# Altium integrated library NSC ADC.IntLib: 493 symbols (part 1 of 17)
Pins are listed as number, name and electrical type; pins without a type are passive.

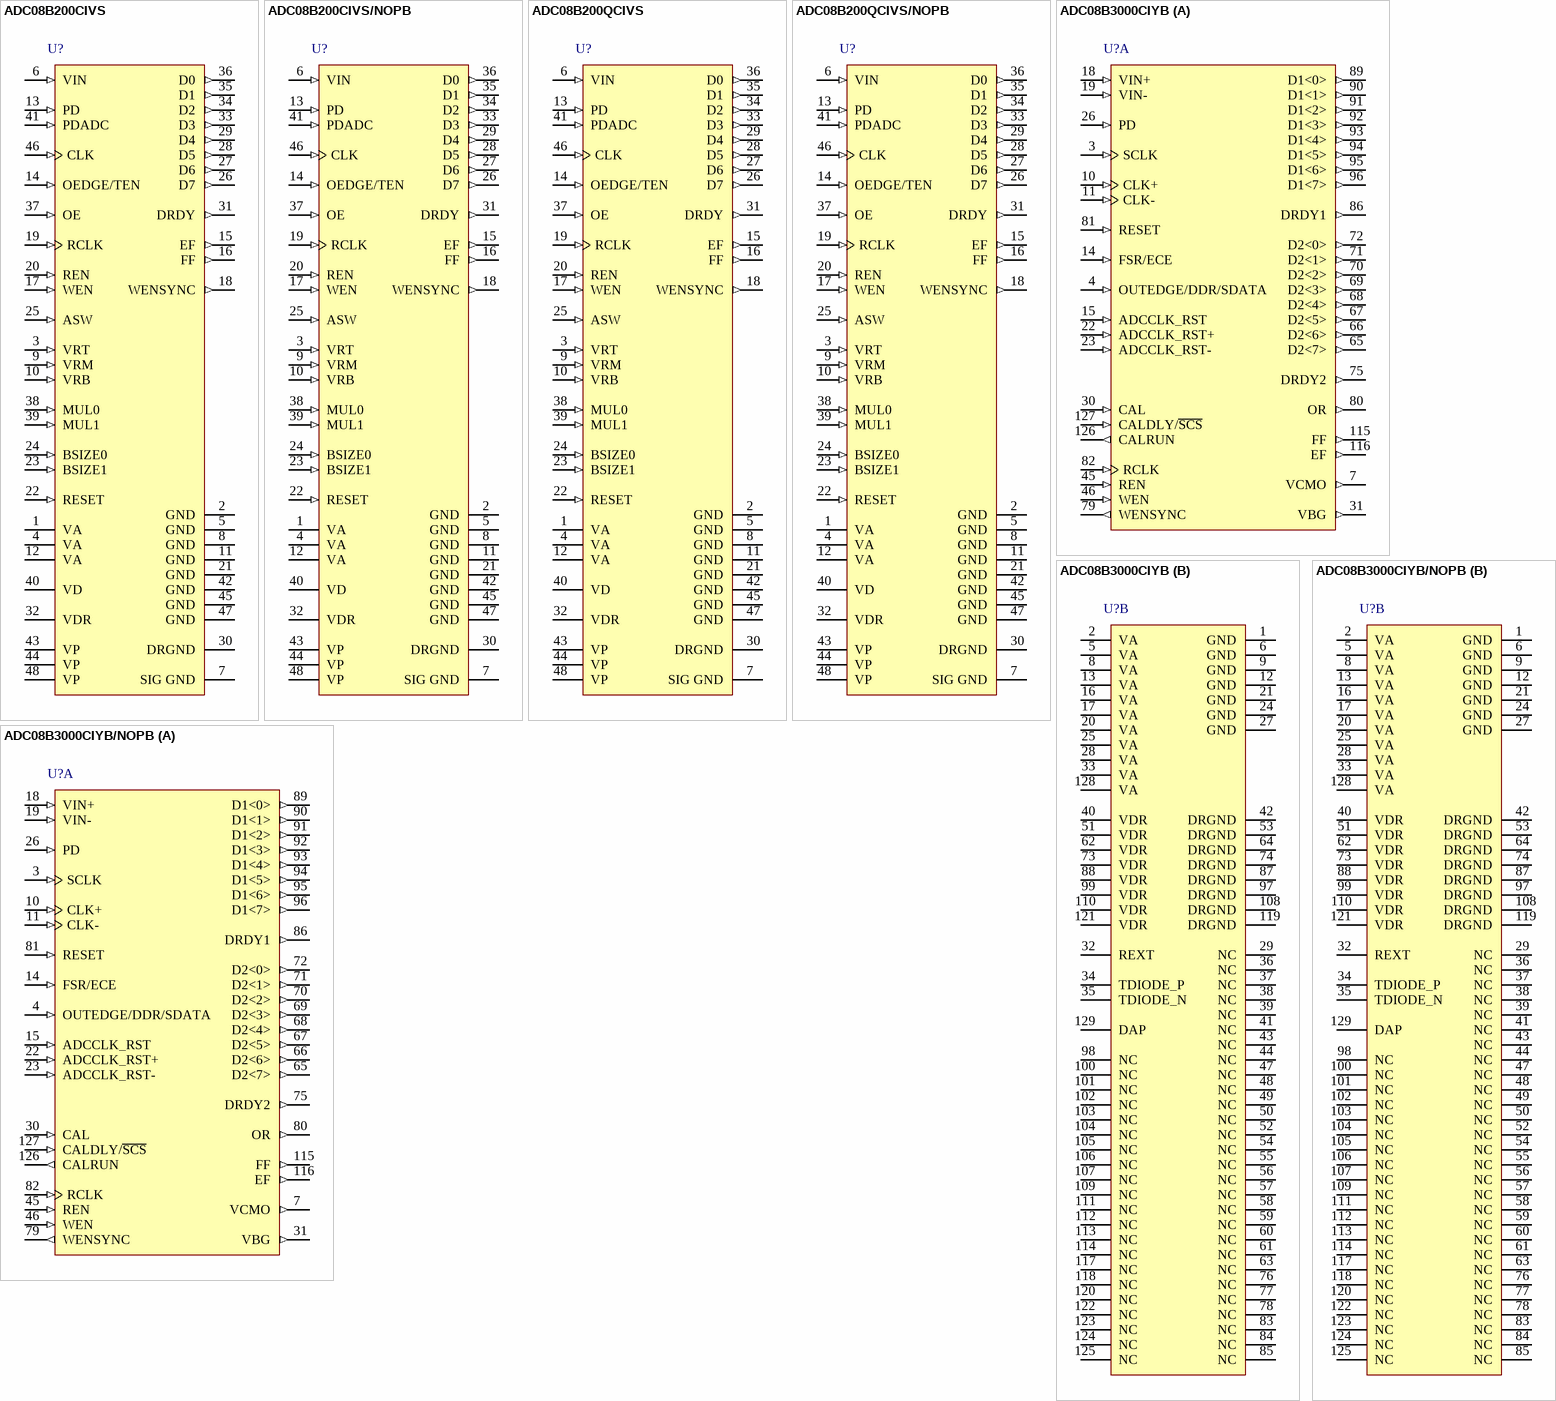
[diagram p0: symbols ADC08B200CIVS to ADC08B3000CIYB/NOPB]

## ADC08B200CIVS
designator U?
8-Bit, 200 MSPS A/D Converter with Capture Buffer, 48-pin TQFP; PartNumber: ADC08B200CIVS; Manufacturer: National Semiconductor; PackageTopMarking: NSUZXYTT*DC08B200*CIVS; PowerWise: N; CompType: ADC IC; Published: 4-Dec-2008; DatasheetVersion: Jul-2009; PackageVersion: revA, Apr-2000; PackageReference: VBC48A; Publisher: Altium Limited; PackageDescription: TQFP, Jedec Metric, 7 x 7 x 1mm, 48 Lead, 0.5mm Pitch; Supplier 1: Farnell; Supplier Part Number 1: 1370034; RoHS: Y; PinCount: 48; Code_JEDEC: MS-026-ABC; ComponentLink1Description: ADC08B200 Datasheet; ComponentLink1URL: http://www.national.com/ds/AD/ADC08B200.pdf; ComponentLink2Description: ADC08B200 Web Page; ComponentLink2URL: http://www.national.com/pf/AD/ADC08B200.html; ComponentLink3Description: VBC48A Package Page; ComponentLink3URL: http://www.national.com/packaging/folders/vbc48a.html
footprint VBC48A_N (Thin QFP, 48-Leads, Body 7x7mm, Pitch 0.5mm, IPC Medium Density)
footprint VBC48A_L (Thin QFP, 48-Leads, Body 7x7mm, Pitch 0.5mm, IPC High Density)
footprint VBC48A_M (Thin QFP, 48-Leads, Body 7x7mm, Pitch 0.5mm, IPC Low Density)
pins: 1 VA (power), 2 GND (power), 3 VRT (in), 4 VA (power), 5 GND (power), 6 VIN (in), 7 SIG GND (power), 8 GND (power), 9 VRM (in), 10 VRB (in), 11 GND (power), 12 VA (power), 13 PD (in), 14 OEDGE/TEN (in), 15 EF (out), 16 FF (out), 17 WEN (in), 18 WENSYNC (out), 19 RCLK (in), 20 REN (in), 21 GND (power), 22 RESET (in), 23 BSIZE1 (in), 24 BSIZE0 (in), 25 ASW (in), 26 D7 (out), 27 D6 (out), 28 D5 (out), 29 D4 (out), 30 DRGND (power), 31 DRDY (out), 32 VDR (power), 33 D3 (out), 34 D2 (out), 35 D1 (out), 36 D0 (out), 37 OE (in), 38 MUL0 (in), 39 MUL1 (in), 40 VD (power), 41 PDADC (in), 42 GND (power), 43 VP (power), 44 VP (power), 45 GND (power), 46 CLK (in), 47 GND (power), 48 VP (power)

## ADC08B200CIVS/NOPB
designator U?
8-Bit, 200 MSPS A/D Converter with Capture Buffer, 48-pin TQFP, Pb-Free; PartNumber: ADC08B200CIVS/NOPB; Manufacturer: National Semiconductor; PackageTopMarking: NSUZXYTT*DC08B200*CIVS; PowerWise: N; CompType: ADC IC; Published: 1-Mar-2010; DatasheetVersion: Jul-2009; PackageVersion: revA, Apr-2000; PackageReference: VBC48A; Publisher: Altium Limited; PackageDescription: TQFP, Jedec Metric, 7 x 7 x 1mm, 48 Lead, 0.5mm Pitch; Supplier 1: Digi-Key; Supplier Part Number 1: ADC08B200CIVS-ND; RoHS: Y; PinCount: 48; Code_JEDEC: MS-026-ABC; ComponentLink1Description: ADC08B200 Datasheet; ComponentLink1URL: http://www.national.com/ds/AD/ADC08B200.pdf; ComponentLink2Description: ADC08B200 Web Page; ComponentLink2URL: http://www.national.com/pf/AD/ADC08B200.html; ComponentLink3Description: VBC48A Package Page; ComponentLink3URL: http://www.national.com/packaging/folders/vbc48a.html
footprint VBC48A_N (Thin QFP, 48-Leads, Body 7x7mm, Pitch 0.5mm, IPC Medium Density)
footprint VBC48A_L (Thin QFP, 48-Leads, Body 7x7mm, Pitch 0.5mm, IPC High Density)
footprint VBC48A_M (Thin QFP, 48-Leads, Body 7x7mm, Pitch 0.5mm, IPC Low Density)
pins: 1 VA (power), 2 GND (power), 3 VRT (in), 4 VA (power), 5 GND (power), 6 VIN (in), 7 SIG GND (power), 8 GND (power), 9 VRM (in), 10 VRB (in), 11 GND (power), 12 VA (power), 13 PD (in), 14 OEDGE/TEN (in), 15 EF (out), 16 FF (out), 17 WEN (in), 18 WENSYNC (out), 19 RCLK (in), 20 REN (in), 21 GND (power), 22 RESET (in), 23 BSIZE1 (in), 24 BSIZE0 (in), 25 ASW (in), 26 D7 (out), 27 D6 (out), 28 D5 (out), 29 D4 (out), 30 DRGND (power), 31 DRDY (out), 32 VDR (power), 33 D3 (out), 34 D2 (out), 35 D1 (out), 36 D0 (out), 37 OE (in), 38 MUL0 (in), 39 MUL1 (in), 40 VD (power), 41 PDADC (in), 42 GND (power), 43 VP (power), 44 VP (power), 45 GND (power), 46 CLK (in), 47 GND (power), 48 VP (power)

## ADC08B200QCIVS
designator U?
8-Bit, 200 MSPS A/D Converter with Capture Buffer, 48-pin TQFP; PartNumber: ADC08B200QCIVS; Manufacturer: National Semiconductor; PackageTopMarking: NSUZXYTT*DC08B200*QCIVS; PowerWise: N; CompType: ADC IC; Published: 4-Dec-2008; DatasheetVersion: Jul-2009; PackageVersion: revA, Apr-2000; PackageReference: VBC48A; Publisher: Altium Limited; PackageDescription: TQFP, Jedec Metric, 7 x 7 x 1mm, 48 Lead, 0.5mm Pitch; RoHS: Y; PinCount: 48; Code_JEDEC: MS-026-ABC; ComponentLink1Description: ADC08B200 Datasheet; ComponentLink1URL: http://www.national.com/ds/AD/ADC08B200.pdf; ComponentLink2Description: ADC08B200 Web Page; ComponentLink2URL: http://www.national.com/pf/AD/ADC08B200.html; ComponentLink3Description: VBC48A Package Page; ComponentLink3URL: http://www.national.com/packaging/folders/vbc48a.html
footprint VBC48A_N (Thin QFP, 48-Leads, Body 7x7mm, Pitch 0.5mm, IPC Medium Density)
footprint VBC48A_L (Thin QFP, 48-Leads, Body 7x7mm, Pitch 0.5mm, IPC High Density)
footprint VBC48A_M (Thin QFP, 48-Leads, Body 7x7mm, Pitch 0.5mm, IPC Low Density)
pins: 1 VA (power), 2 GND (power), 3 VRT (in), 4 VA (power), 5 GND (power), 6 VIN (in), 7 SIG GND (power), 8 GND (power), 9 VRM (in), 10 VRB (in), 11 GND (power), 12 VA (power), 13 PD (in), 14 OEDGE/TEN (in), 15 EF (out), 16 FF (out), 17 WEN (in), 18 WENSYNC (out), 19 RCLK (in), 20 REN (in), 21 GND (power), 22 RESET (in), 23 BSIZE1 (in), 24 BSIZE0 (in), 25 ASW (in), 26 D7 (out), 27 D6 (out), 28 D5 (out), 29 D4 (out), 30 DRGND (power), 31 DRDY (out), 32 VDR (power), 33 D3 (out), 34 D2 (out), 35 D1 (out), 36 D0 (out), 37 OE (in), 38 MUL0 (in), 39 MUL1 (in), 40 VD (power), 41 PDADC (in), 42 GND (power), 43 VP (power), 44 VP (power), 45 GND (power), 46 CLK (in), 47 GND (power), 48 VP (power)

## ADC08B200QCIVS/NOPB
designator U?
8-Bit, 200 MSPS A/D Converter with Capture Buffer, 48-pin TQFP, Pb-Free; PartNumber: ADC08B200QCIVS/NOPB; Manufacturer: National Semiconductor; PackageTopMarking: NSUZXYTT*DC08B200*QCIVS; PowerWise: N; CompType: ADC IC; Published: 1-Mar-2010; DatasheetVersion: Jul-2009; PackageVersion: revA, Apr-2000; PackageReference: VBC48A; Publisher: Altium Limited; PackageDescription: TQFP, Jedec Metric, 7 x 7 x 1mm, 48 Lead, 0.5mm Pitch; Supplier 1: Digi-Key; Supplier Part Number 1: ADC08B200QCIVS-ND; RoHS: Y; PinCount: 48; Code_JEDEC: MS-026-ABC; ComponentLink1Description: ADC08B200 Datasheet; ComponentLink1URL: http://www.national.com/ds/AD/ADC08B200.pdf; ComponentLink2Description: ADC08B200 Web Page; ComponentLink2URL: http://www.national.com/pf/AD/ADC08B200.html; ComponentLink3Description: VBC48A Package Page; ComponentLink3URL: http://www.national.com/packaging/folders/vbc48a.html
footprint VBC48A_N (Thin QFP, 48-Leads, Body 7x7mm, Pitch 0.5mm, IPC Medium Density)
footprint VBC48A_L (Thin QFP, 48-Leads, Body 7x7mm, Pitch 0.5mm, IPC High Density)
footprint VBC48A_M (Thin QFP, 48-Leads, Body 7x7mm, Pitch 0.5mm, IPC Low Density)
pins: 1 VA (power), 2 GND (power), 3 VRT (in), 4 VA (power), 5 GND (power), 6 VIN (in), 7 SIG GND (power), 8 GND (power), 9 VRM (in), 10 VRB (in), 11 GND (power), 12 VA (power), 13 PD (in), 14 OEDGE/TEN (in), 15 EF (out), 16 FF (out), 17 WEN (in), 18 WENSYNC (out), 19 RCLK (in), 20 REN (in), 21 GND (power), 22 RESET (in), 23 BSIZE1 (in), 24 BSIZE0 (in), 25 ASW (in), 26 D7 (out), 27 D6 (out), 28 D5 (out), 29 D4 (out), 30 DRGND (power), 31 DRDY (out), 32 VDR (power), 33 D3 (out), 34 D2 (out), 35 D1 (out), 36 D0 (out), 37 OE (in), 38 MUL0 (in), 39 MUL1 (in), 40 VD (power), 41 PDADC (in), 42 GND (power), 43 VP (power), 44 VP (power), 45 GND (power), 46 CLK (in), 47 GND (power), 48 VP (power)

## ADC08B3000CIYB
designator U?
8-Bit, 3 GSPS, High Performance, Low Power A/D Converter with 4K Buffer, 129-pin LQFP-EP; PartNumber: ADC08B3000CIYB; Manufacturer: National Semiconductor; PackageTopMarking: NSUZXYYTTE#*ADC08B3000*CIYB; PowerWise: Y; CompType: ADC IC; Published: 4-Dec-2008; DatasheetVersion: Jul-2009; PackageVersion: revB, Aug-2006; PackageReference: VNX128A; Publisher: Altium Limited; PackageDescription: LQFP, 20 x 20 x 1.4mm, 128 Lead, 0.5mm Pitch, Exposed Pad; RoHS: Y; PinCount: 128; Code_JEDEC: MS-026-BFB; ComponentLink1Description: ADC08B3000 Datasheet; ComponentLink1URL: http://www.national.com/ds/AD/ADC08B3000.pdf; ComponentLink2Description: ADC08B3000 Web Page; ComponentLink2URL: http://www.national.com/pf/AD/ADC08B3000.html; ComponentLink3Description: VNX128A Package Page; ComponentLink3URL: http://www.national.com/packaging/folders/vnx128a.html
footprint VNX128A_N (Thin QFP, 128-Leads, Body 20x20mm, Pitch 0.5mm, Exposed Pad, IPC Medium Density)
footprint VNX128A_L (Thin QFP, 128-Leads, Body 20x20mm, Pitch 0.5mm, Exposed Pad, IPC High Density)
footprint VNX128A_M (Thin QFP, 128-Leads, Body 20x20mm, Pitch 0.5mm, Exposed Pad, IPC Low Density)
part A pins: 3 SCLK (in), 4 OUTEDGE/DDR/SDATA (in), 7 VCMO (out), 10 CLK+ (in), 11 CLK- (in), 14 FSR/ECE (in), 15 ADCCLK_RST (in), 18 VIN+ (in), 19 VIN- (in), 22 ADCCLK_RST+ (in), 23 ADCCLK_RST- (in), 26 PD (in), 30 CAL (in), 31 VBG (out), 45 REN (in), 46 WEN (in), 65 D2<7> (out), 66 D2<6> (out), 67 D2<5> (out), 68 D2<4> (out), 69 D2<3> (out), 70 D2<2> (out), 71 D2<1> (out), 72 D2<0> (out), 75 DRDY2 (out), 79 WENSYNC (out), 80 OR (out), 81 RESET (in), 82 RCLK (in), 86 DRDY1 (out), 89 D1<0> (out), 90 D1<1> (out), 91 D1<2> (out), 92 D1<3> (out), 93 D1<4> (out), 94 D1<5> (out), 95 D1<6> (out), 96 D1<7> (out), 115 FF (out), 116 EF (out), 126 CALRUN (out), 127 CALDLY/~{SCS} (in)
part B pins: 1 GND (power), 2 VA (power), 5 VA (power), 6 GND (power), 8 VA (power), 9 GND (power), 12 GND (power), 13 VA (power), 16 VA (power), 17 VA (power), 20 VA (power), 21 GND (power), 24 GND (power), 25 VA (power), 27 GND (power), 28 VA (power), 29 NC, 32 REXT, 33 VA (power), 34 TDIODE_P, 35 TDIODE_N, 36 NC, 37 NC, 38 NC, 39 NC, 40 VDR (power), 41 NC, 42 DRGND (power), 43 NC, 44 NC, 47 NC, 48 NC, 49 NC, 50 NC, 51 VDR (power), 52 NC, 53 DRGND (power), 54 NC, 55 NC, 56 NC, 57 NC, 58 NC, 59 NC, 60 NC, 61 NC, 62 VDR (power), 63 NC, 64 DRGND (power), 73 VDR (power), 74 DRGND (power), 76 NC, 77 NC, 78 NC, 83 NC, 84 NC, 85 NC, 87 DRGND (power), 88 VDR (power), 97 DRGND (power), 98 NC, 99 VDR (power), 100 NC, 101 NC, 102 NC, 103 NC, 104 NC, 105 NC, 106 NC, 107 NC, 108 DRGND (power), 109 NC, 110 VDR (power), 111 NC, 112 NC, 113 NC, 114 NC, 117 NC, 118 NC, 119 DRGND (power), 120 NC, 121 VDR (power), 122 NC, 123 NC, 124 NC, 125 NC, 128 VA (power), 129 DAP (power)

## ADC08B3000CIYB/NOPB
designator U?
8-Bit, 3 GSPS, High Performance, Low Power A/D Converter with 4K Buffer, 128-pin LQFP-EP, Pb-Free; PartNumber: ADC08B3000CIYB/NOPB; Manufacturer: National Semiconductor; PackageTopMarking: NSUZXYYTTE#*ADC08B3000*CIYB; PowerWise: Y; CompType: ADC IC; Published: 1-Mar-2010; DatasheetVersion: Jul-2009; PackageVersion: revB, Aug-2006; PackageReference: VNX128A; Publisher: Altium Limited; PackageDescription: LQFP, 20 x 20 x 1.4mm, 128 Lead, 0.5mm Pitch, Exposed Pad; Supplier 1: Digi-Key; Supplier Part Number 1: ADC08B3000CIYB-ND; RoHS: Y; PinCount: 128; Code_JEDEC: MS-026-BFB; ComponentLink1Description: ADC08B3000 Datasheet; ComponentLink1URL: http://www.national.com/ds/AD/ADC08B3000.pdf; ComponentLink2Description: ADC08B3000 Web Page; ComponentLink2URL: http://www.national.com/pf/AD/ADC08B3000.html; ComponentLink3Description: VNX128A Package Page; ComponentLink3URL: http://www.national.com/packaging/folders/vnx128a.html
footprint VNX128A_N (Thin QFP, 128-Leads, Body 20x20mm, Pitch 0.5mm, Exposed Pad, IPC Medium Density)
footprint VNX128A_L (Thin QFP, 128-Leads, Body 20x20mm, Pitch 0.5mm, Exposed Pad, IPC High Density)
footprint VNX128A_M (Thin QFP, 128-Leads, Body 20x20mm, Pitch 0.5mm, Exposed Pad, IPC Low Density)
part A pins: 3 SCLK (in), 4 OUTEDGE/DDR/SDATA (in), 7 VCMO (out), 10 CLK+ (in), 11 CLK- (in), 14 FSR/ECE (in), 15 ADCCLK_RST (in), 18 VIN+ (in), 19 VIN- (in), 22 ADCCLK_RST+ (in), 23 ADCCLK_RST- (in), 26 PD (in), 30 CAL (in), 31 VBG (out), 45 REN (in), 46 WEN (in), 65 D2<7> (out), 66 D2<6> (out), 67 D2<5> (out), 68 D2<4> (out), 69 D2<3> (out), 70 D2<2> (out), 71 D2<1> (out), 72 D2<0> (out), 75 DRDY2 (out), 79 WENSYNC (out), 80 OR (out), 81 RESET (in), 82 RCLK (in), 86 DRDY1 (out), 89 D1<0> (out), 90 D1<1> (out), 91 D1<2> (out), 92 D1<3> (out), 93 D1<4> (out), 94 D1<5> (out), 95 D1<6> (out), 96 D1<7> (out), 115 FF (out), 116 EF (out), 126 CALRUN (out), 127 CALDLY/~{SCS} (in)
part B pins: 1 GND (power), 2 VA (power), 5 VA (power), 6 GND (power), 8 VA (power), 9 GND (power), 12 GND (power), 13 VA (power), 16 VA (power), 17 VA (power), 20 VA (power), 21 GND (power), 24 GND (power), 25 VA (power), 27 GND (power), 28 VA (power), 29 NC, 32 REXT, 33 VA (power), 34 TDIODE_P, 35 TDIODE_N, 36 NC, 37 NC, 38 NC, 39 NC, 40 VDR (power), 41 NC, 42 DRGND (power), 43 NC, 44 NC, 47 NC, 48 NC, 49 NC, 50 NC, 51 VDR (power), 52 NC, 53 DRGND (power), 54 NC, 55 NC, 56 NC, 57 NC, 58 NC, 59 NC, 60 NC, 61 NC, 62 VDR (power), 63 NC, 64 DRGND (power), 73 VDR (power), 74 DRGND (power), 76 NC, 77 NC, 78 NC, 83 NC, 84 NC, 85 NC, 87 DRGND (power), 88 VDR (power), 97 DRGND (power), 98 NC, 99 VDR (power), 100 NC, 101 NC, 102 NC, 103 NC, 104 NC, 105 NC, 106 NC, 107 NC, 108 DRGND (power), 109 NC, 110 VDR (power), 111 NC, 112 NC, 113 NC, 114 NC, 117 NC, 118 NC, 119 DRGND (power), 120 NC, 121 VDR (power), 122 NC, 123 NC, 124 NC, 125 NC, 128 VA (power), 129 DAP (power)

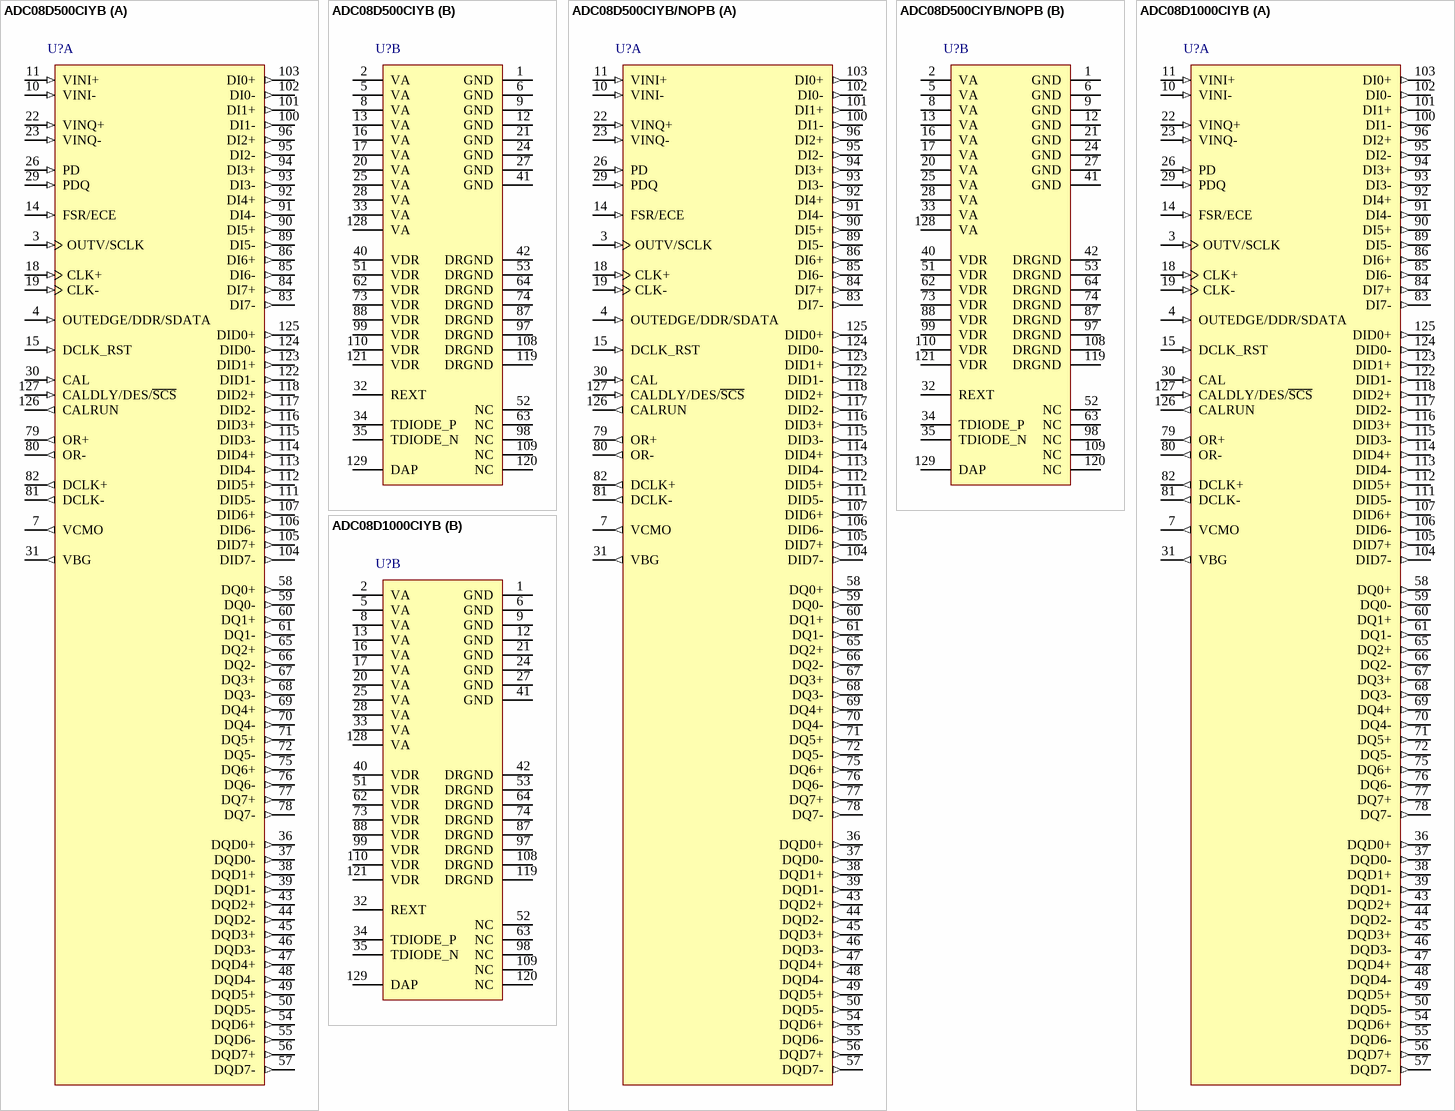
[diagram p1: symbols ADC08D500CIYB to ADC08D1000CIYB]

## ADC08D500CIYB
designator U?
High Performance, Low Power, Dual 8-Bit, 500 MSPS A/D Converter, 129-pin LQFP-EP; PartNumber: ADC08D500CIYB; Manufacturer: National Semiconductor; PackageTopMarking: NSUZXYYTTE#*ADC08D500*CIYB; PowerWise: Y; CompType: ADC IC; Published: 4-Dec-2008; DatasheetVersion: Apr-2009; PackageVersion: revB, Aug-2006; PackageReference: VNX128A; Publisher: Altium Limited; PackageDescription: LQFP, 20 x 20 x 1.4mm, 128 Lead, 0.5mm Pitch, Exposed Pad; RoHS: N; PinCount: 128; Code_JEDEC: MS-026-BFB; ComponentLink1Description: ADC08D500 Datasheet; ComponentLink1URL: http://www.national.com/ds/AD/ADC08D500.pdf; ComponentLink2Description: ADC08D500 Web Page; ComponentLink2URL: http://www.national.com/pf/AD/ADC08D500.html; ComponentLink3Description: VNX128A Package Page; ComponentLink3URL: http://www.national.com/packaging/folders/vnx128a.html
footprint VNX128A_N (Thin QFP, 128-Leads, Body 20x20mm, Pitch 0.5mm, Exposed Pad, IPC Medium Density)
footprint VNX128A_L (Thin QFP, 128-Leads, Body 20x20mm, Pitch 0.5mm, Exposed Pad, IPC High Density)
footprint VNX128A_M (Thin QFP, 128-Leads, Body 20x20mm, Pitch 0.5mm, Exposed Pad, IPC Low Density)
part A pins: 3 OUTV/SCLK (in), 4 OUTEDGE/DDR/SDATA (in), 7 VCMO (out), 10 VINI- (in), 11 VINI+ (in), 14 FSR/ECE (in), 15 DCLK_RST (in), 18 CLK+ (in), 19 CLK- (in), 22 VINQ+ (in), 23 VINQ- (in), 26 PD (in), 29 PDQ (in), 30 CAL (in), 31 VBG (out), 36 DQD0+ (out), 37 DQD0- (out), 38 DQD1+ (out), 39 DQD1- (out), 43 DQD2+ (out), 44 DQD2- (out), 45 DQD3+ (out), 46 DQD3- (out), 47 DQD4+ (out), 48 DQD4- (out), 49 DQD5+ (out), 50 DQD5- (out), 54 DQD6+ (out), 55 DQD6- (out), 56 DQD7+ (out), 57 DQD7- (out), 58 DQ0+ (out), 59 DQ0- (out), 60 DQ1+ (out), 61 DQ1- (out), 65 DQ2+ (out), 66 DQ2- (out), 67 DQ3+ (out), 68 DQ3- (out), 69 DQ4+ (out), 70 DQ4- (out), 71 DQ5+ (out), 72 DQ5- (out), 75 DQ6+ (out), 76 DQ6- (out), 77 DQ7+ (out), 78 DQ7- (out), 79 OR+ (out), 80 OR- (out), 81 DCLK- (out), 82 DCLK+ (out), 83 DI7- (out), 84 DI7+ (out), 85 DI6- (out), 86 DI6+ (out), 89 DI5- (out), 90 DI5+ (out), 91 DI4- (out), 92 DI4+ (out), 93 DI3- (out), 94 DI3+ (out), 95 DI2- (out), 96 DI2+ (out), 100 DI1- (out), 101 DI1+ (out), 102 DI0- (out), 103 DI0+ (out), 104 DID7- (out), 105 DID7+ (out), 106 DID6- (out), 107 DID6+ (out), 111 DID5- (out), 112 DID5+ (out), 113 DID4- (out), 114 DID4+ (out), 115 DID3- (out), 116 DID3+ (out), 117 DID2- (out), 118 DID2+ (out), 122 DID1- (out), 123 DID1+ (out), 124 DID0- (out), 125 DID0+ (out), 126 CALRUN (out), 127 CALDLY/DES/~{SCS} (in)
part B pins: 1 GND (power), 2 VA (power), 5 VA (power), 6 GND (power), 8 VA (power), 9 GND (power), 12 GND (power), 13 VA (power), 16 VA (power), 17 VA (power), 20 VA (power), 21 GND (power), 24 GND (power), 25 VA (power), 27 GND (power), 28 VA (power), 32 REXT, 33 VA (power), 34 TDIODE_P, 35 TDIODE_N, 40 VDR (power), 41 GND (power), 42 DRGND (power), 51 VDR (power), 52 NC, 53 DRGND (power), 62 VDR (power), 63 NC, 64 DRGND (power), 73 VDR (power), 74 DRGND (power), 87 DRGND (power), 88 VDR (power), 97 DRGND (power), 98 NC, 99 VDR (power), 108 DRGND (power), 109 NC, 110 VDR (power), 119 DRGND (power), 120 NC, 121 VDR (power), 128 VA (power), 129 DAP (power)

## ADC08D500CIYB/NOPB
designator U?
High Performance, Low Power, Dual 8-Bit, 500 MSPS A/D Converter, 128-pin LQFP-EP, Pb-Free; PartNumber: ADC08D500CIYB/NOPB; Manufacturer: National Semiconductor; PackageTopMarking: NSUZXYYTTE#*ADC08D500*CIYB; PowerWise: Y; CompType: ADC IC; Published: 1-Mar-2010; DatasheetVersion: Apr-2009; PackageVersion: revB, Aug-2006; PackageReference: VNX128A; Publisher: Altium Limited; PackageDescription: LQFP, 20 x 20 x 1.4mm, 128 Lead, 0.5mm Pitch, Exposed Pad; Supplier 1: Digi-Key; Supplier Part Number 1: ADC08D500CIYB-ND; RoHS: Y; PinCount: 128; Code_JEDEC: MS-026-BFB; ComponentLink1Description: ADC08D500 Datasheet; ComponentLink1URL: http://www.national.com/ds/AD/ADC08D500.pdf; ComponentLink2Description: ADC08D500 Web Page; ComponentLink2URL: http://www.national.com/pf/AD/ADC08D500.html; ComponentLink3Description: VNX128A Package Page; ComponentLink3URL: http://www.national.com/packaging/folders/vnx128a.html
footprint VNX128A_N (Thin QFP, 128-Leads, Body 20x20mm, Pitch 0.5mm, Exposed Pad, IPC Medium Density)
footprint VNX128A_L (Thin QFP, 128-Leads, Body 20x20mm, Pitch 0.5mm, Exposed Pad, IPC High Density)
footprint VNX128A_M (Thin QFP, 128-Leads, Body 20x20mm, Pitch 0.5mm, Exposed Pad, IPC Low Density)
part A pins: 3 OUTV/SCLK (in), 4 OUTEDGE/DDR/SDATA (in), 7 VCMO (out), 10 VINI- (in), 11 VINI+ (in), 14 FSR/ECE (in), 15 DCLK_RST (in), 18 CLK+ (in), 19 CLK- (in), 22 VINQ+ (in), 23 VINQ- (in), 26 PD (in), 29 PDQ (in), 30 CAL (in), 31 VBG (out), 36 DQD0+ (out), 37 DQD0- (out), 38 DQD1+ (out), 39 DQD1- (out), 43 DQD2+ (out), 44 DQD2- (out), 45 DQD3+ (out), 46 DQD3- (out), 47 DQD4+ (out), 48 DQD4- (out), 49 DQD5+ (out), 50 DQD5- (out), 54 DQD6+ (out), 55 DQD6- (out), 56 DQD7+ (out), 57 DQD7- (out), 58 DQ0+ (out), 59 DQ0- (out), 60 DQ1+ (out), 61 DQ1- (out), 65 DQ2+ (out), 66 DQ2- (out), 67 DQ3+ (out), 68 DQ3- (out), 69 DQ4+ (out), 70 DQ4- (out), 71 DQ5+ (out), 72 DQ5- (out), 75 DQ6+ (out), 76 DQ6- (out), 77 DQ7+ (out), 78 DQ7- (out), 79 OR+ (out), 80 OR- (out), 81 DCLK- (out), 82 DCLK+ (out), 83 DI7- (out), 84 DI7+ (out), 85 DI6- (out), 86 DI6+ (out), 89 DI5- (out), 90 DI5+ (out), 91 DI4- (out), 92 DI4+ (out), 93 DI3- (out), 94 DI3+ (out), 95 DI2- (out), 96 DI2+ (out), 100 DI1- (out), 101 DI1+ (out), 102 DI0- (out), 103 DI0+ (out), 104 DID7- (out), 105 DID7+ (out), 106 DID6- (out), 107 DID6+ (out), 111 DID5- (out), 112 DID5+ (out), 113 DID4- (out), 114 DID4+ (out), 115 DID3- (out), 116 DID3+ (out), 117 DID2- (out), 118 DID2+ (out), 122 DID1- (out), 123 DID1+ (out), 124 DID0- (out), 125 DID0+ (out), 126 CALRUN (out), 127 CALDLY/DES/~{SCS} (in)
part B pins: 1 GND (power), 2 VA (power), 5 VA (power), 6 GND (power), 8 VA (power), 9 GND (power), 12 GND (power), 13 VA (power), 16 VA (power), 17 VA (power), 20 VA (power), 21 GND (power), 24 GND (power), 25 VA (power), 27 GND (power), 28 VA (power), 32 REXT, 33 VA (power), 34 TDIODE_P, 35 TDIODE_N, 40 VDR (power), 41 GND (power), 42 DRGND (power), 51 VDR (power), 52 NC, 53 DRGND (power), 62 VDR (power), 63 NC, 64 DRGND (power), 73 VDR (power), 74 DRGND (power), 87 DRGND (power), 88 VDR (power), 97 DRGND (power), 98 NC, 99 VDR (power), 108 DRGND (power), 109 NC, 110 VDR (power), 119 DRGND (power), 120 NC, 121 VDR (power), 128 VA (power), 129 DAP (power)

## ADC08D1000CIYB
designator U?
High Performance, Low Power, Dual 8-Bit, 1 GSPS A/D Converter, 129-pin LQFP-EP; PartNumber: ADC08D1000CIYB; Manufacturer: National Semiconductor; PackageTopMarking: NSUZXYYTTE#*ADC08D1000*CIYB; PowerWise: Y; CompType: ADC IC; Published: 4-Dec-2008; DatasheetVersion: Apr-2009; PackageVersion: revB, Aug-2006; PackageReference: VNX128A; Publisher: Altium Limited; PackageDescription: LQFP, 20 x 20 x 1.4mm, 128 Lead, 0.5mm Pitch, Exposed Pad; RoHS: N; PinCount: 128; Code_JEDEC: MS-026-BFB; ComponentLink1Description: ADC08D1000 Datasheet; ComponentLink1URL: http://www.national.com/ds/AD/ADC08D1000.pdf; ComponentLink2Description: ADC08D1000 Web Page; ComponentLink2URL: http://www.national.com/pf/AD/ADC08D1000.html; ComponentLink3Description: VNX128A Package Page; ComponentLink3URL: http://www.national.com/packaging/folders/vnx128a.html
footprint VNX128A_N (Thin QFP, 128-Leads, Body 20x20mm, Pitch 0.5mm, Exposed Pad, IPC Medium Density)
footprint VNX128A_L (Thin QFP, 128-Leads, Body 20x20mm, Pitch 0.5mm, Exposed Pad, IPC High Density)
footprint VNX128A_M (Thin QFP, 128-Leads, Body 20x20mm, Pitch 0.5mm, Exposed Pad, IPC Low Density)
part A pins: 3 OUTV/SCLK (in), 4 OUTEDGE/DDR/SDATA (in), 7 VCMO (out), 10 VINI- (in), 11 VINI+ (in), 14 FSR/ECE (in), 15 DCLK_RST (in), 18 CLK+ (in), 19 CLK- (in), 22 VINQ+ (in), 23 VINQ- (in), 26 PD (in), 29 PDQ (in), 30 CAL (in), 31 VBG (out), 36 DQD0+ (out), 37 DQD0- (out), 38 DQD1+ (out), 39 DQD1- (out), 43 DQD2+ (out), 44 DQD2- (out), 45 DQD3+ (out), 46 DQD3- (out), 47 DQD4+ (out), 48 DQD4- (out), 49 DQD5+ (out), 50 DQD5- (out), 54 DQD6+ (out), 55 DQD6- (out), 56 DQD7+ (out), 57 DQD7- (out), 58 DQ0+ (out), 59 DQ0- (out), 60 DQ1+ (out), 61 DQ1- (out), 65 DQ2+ (out), 66 DQ2- (out), 67 DQ3+ (out), 68 DQ3- (out), 69 DQ4+ (out), 70 DQ4- (out), 71 DQ5+ (out), 72 DQ5- (out), 75 DQ6+ (out), 76 DQ6- (out), 77 DQ7+ (out), 78 DQ7- (out), 79 OR+ (out), 80 OR- (out), 81 DCLK- (out), 82 DCLK+ (out), 83 DI7- (out), 84 DI7+ (out), 85 DI6- (out), 86 DI6+ (out), 89 DI5- (out), 90 DI5+ (out), 91 DI4- (out), 92 DI4+ (out), 93 DI3- (out), 94 DI3+ (out), 95 DI2- (out), 96 DI2+ (out), 100 DI1- (out), 101 DI1+ (out), 102 DI0- (out), 103 DI0+ (out), 104 DID7- (out), 105 DID7+ (out), 106 DID6- (out), 107 DID6+ (out), 111 DID5- (out), 112 DID5+ (out), 113 DID4- (out), 114 DID4+ (out), 115 DID3- (out), 116 DID3+ (out), 117 DID2- (out), 118 DID2+ (out), 122 DID1- (out), 123 DID1+ (out), 124 DID0- (out), 125 DID0+ (out), 126 CALRUN (out), 127 CALDLY/DES/~{SCS} (in)
part B pins: 1 GND (power), 2 VA (power), 5 VA (power), 6 GND (power), 8 VA (power), 9 GND (power), 12 GND (power), 13 VA (power), 16 VA (power), 17 VA (power), 20 VA (power), 21 GND (power), 24 GND (power), 25 VA (power), 27 GND (power), 28 VA (power), 32 REXT, 33 VA (power), 34 TDIODE_P, 35 TDIODE_N, 40 VDR (power), 41 GND (power), 42 DRGND (power), 51 VDR (power), 52 NC, 53 DRGND (power), 62 VDR (power), 63 NC, 64 DRGND (power), 73 VDR (power), 74 DRGND (power), 87 DRGND (power), 88 VDR (power), 97 DRGND (power), 98 NC, 99 VDR (power), 108 DRGND (power), 109 NC, 110 VDR (power), 119 DRGND (power), 120 NC, 121 VDR (power), 128 VA (power), 129 DAP (power)

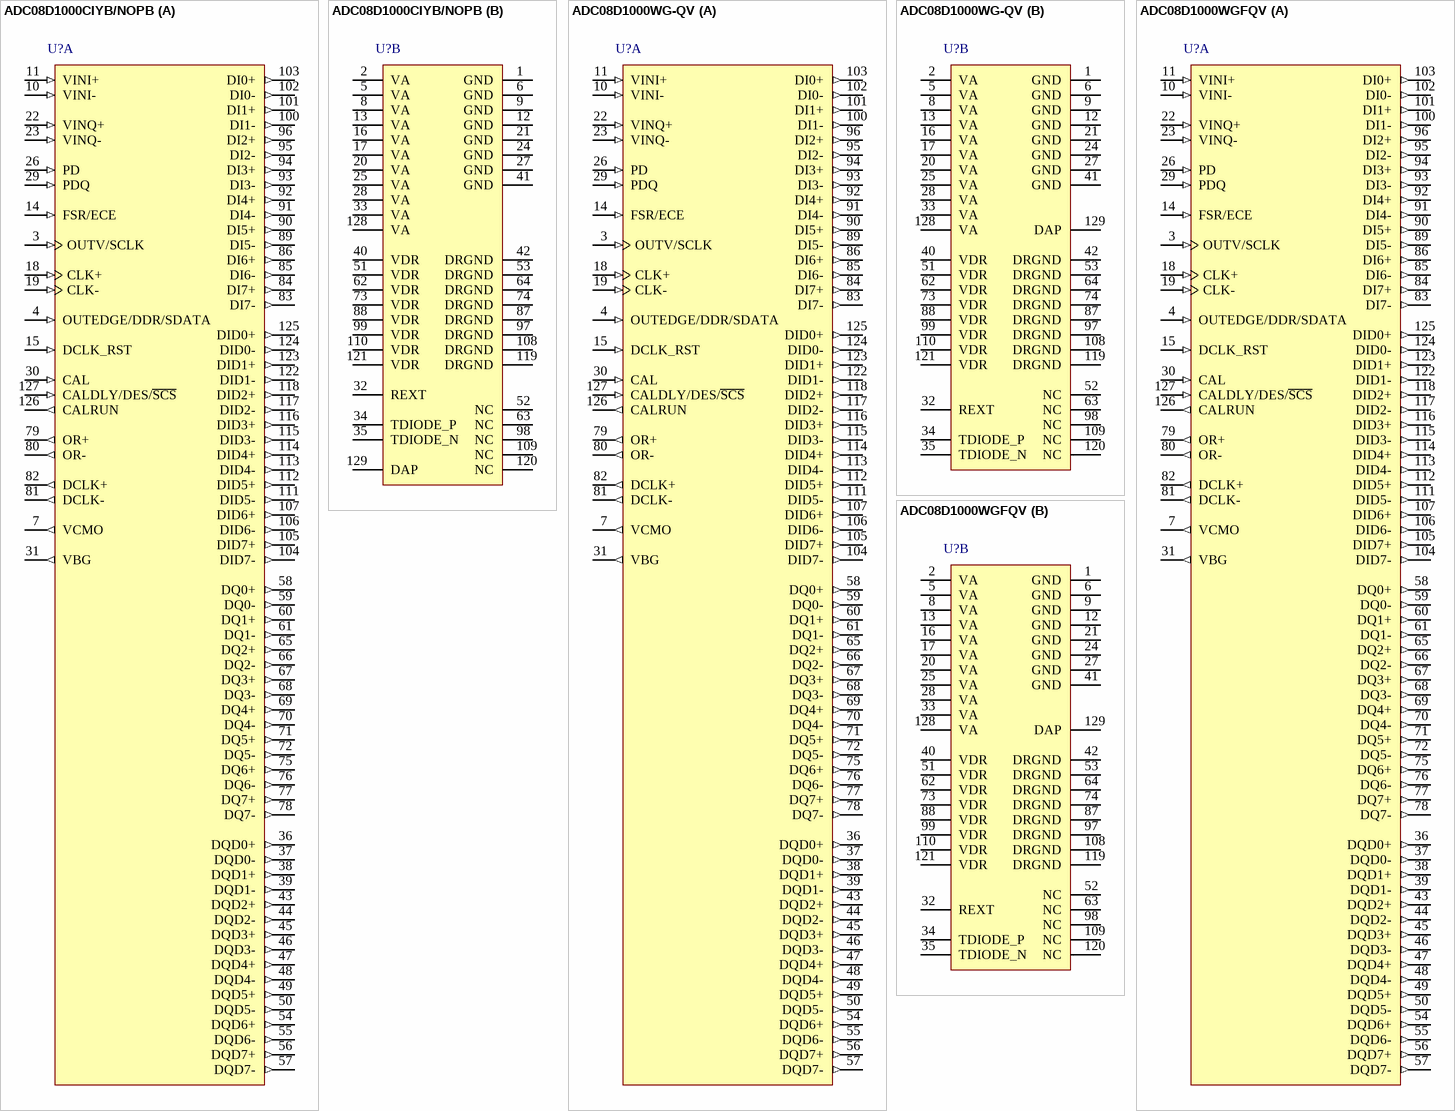
[diagram p2: symbols ADC08D1000CIYB/NOPB to ADC08D1000WGFQV]

## ADC08D1000CIYB/NOPB
designator U?
High Performance, Low Power, Dual 8-Bit, 1 GSPS A/D Converter, 128-pin LQFP-EP, Pb-Free; PartNumber: ADC08D1000CIYB/NOPB; Manufacturer: National Semiconductor; PackageTopMarking: NSUZXYYTTE#*ADC08D1000*CIYB; PowerWise: Y; CompType: ADC IC; Published: 1-Mar-2010; DatasheetVersion: Apr-2009; PackageVersion: revB, Aug-2006; PackageReference: VNX128A; Publisher: Altium Limited; PackageDescription: LQFP, 20 x 20 x 1.4mm, 128 Lead, 0.5mm Pitch, Exposed Pad; Supplier 1: Digi-Key; Supplier Part Number 1: ADC08D1000CIYB-ND; Supplier 2: Farnell; Supplier Part Number 2: 1559284; RoHS: Y; PinCount: 128; Code_JEDEC: MS-026-BFB; ComponentLink1Description: ADC08D1000 Datasheet; ComponentLink1URL: http://www.national.com/ds/AD/ADC08D1000.pdf; ComponentLink2Description: ADC08D1000 Web Page; ComponentLink2URL: http://www.national.com/pf/AD/ADC08D1000.html; ComponentLink3Description: VNX128A Package Page; ComponentLink3URL: http://www.national.com/packaging/folders/vnx128a.html
footprint VNX128A_N (Thin QFP, 128-Leads, Body 20x20mm, Pitch 0.5mm, Exposed Pad, IPC Medium Density)
footprint VNX128A_L (Thin QFP, 128-Leads, Body 20x20mm, Pitch 0.5mm, Exposed Pad, IPC High Density)
footprint VNX128A_M (Thin QFP, 128-Leads, Body 20x20mm, Pitch 0.5mm, Exposed Pad, IPC Low Density)
part A pins: 3 OUTV/SCLK (in), 4 OUTEDGE/DDR/SDATA (in), 7 VCMO (out), 10 VINI- (in), 11 VINI+ (in), 14 FSR/ECE (in), 15 DCLK_RST (in), 18 CLK+ (in), 19 CLK- (in), 22 VINQ+ (in), 23 VINQ- (in), 26 PD (in), 29 PDQ (in), 30 CAL (in), 31 VBG (out), 36 DQD0+ (out), 37 DQD0- (out), 38 DQD1+ (out), 39 DQD1- (out), 43 DQD2+ (out), 44 DQD2- (out), 45 DQD3+ (out), 46 DQD3- (out), 47 DQD4+ (out), 48 DQD4- (out), 49 DQD5+ (out), 50 DQD5- (out), 54 DQD6+ (out), 55 DQD6- (out), 56 DQD7+ (out), 57 DQD7- (out), 58 DQ0+ (out), 59 DQ0- (out), 60 DQ1+ (out), 61 DQ1- (out), 65 DQ2+ (out), 66 DQ2- (out), 67 DQ3+ (out), 68 DQ3- (out), 69 DQ4+ (out), 70 DQ4- (out), 71 DQ5+ (out), 72 DQ5- (out), 75 DQ6+ (out), 76 DQ6- (out), 77 DQ7+ (out), 78 DQ7- (out), 79 OR+ (out), 80 OR- (out), 81 DCLK- (out), 82 DCLK+ (out), 83 DI7- (out), 84 DI7+ (out), 85 DI6- (out), 86 DI6+ (out), 89 DI5- (out), 90 DI5+ (out), 91 DI4- (out), 92 DI4+ (out), 93 DI3- (out), 94 DI3+ (out), 95 DI2- (out), 96 DI2+ (out), 100 DI1- (out), 101 DI1+ (out), 102 DI0- (out), 103 DI0+ (out), 104 DID7- (out), 105 DID7+ (out), 106 DID6- (out), 107 DID6+ (out), 111 DID5- (out), 112 DID5+ (out), 113 DID4- (out), 114 DID4+ (out), 115 DID3- (out), 116 DID3+ (out), 117 DID2- (out), 118 DID2+ (out), 122 DID1- (out), 123 DID1+ (out), 124 DID0- (out), 125 DID0+ (out), 126 CALRUN (out), 127 CALDLY/DES/~{SCS} (in)
part B pins: 1 GND (power), 2 VA (power), 5 VA (power), 6 GND (power), 8 VA (power), 9 GND (power), 12 GND (power), 13 VA (power), 16 VA (power), 17 VA (power), 20 VA (power), 21 GND (power), 24 GND (power), 25 VA (power), 27 GND (power), 28 VA (power), 32 REXT, 33 VA (power), 34 TDIODE_P, 35 TDIODE_N, 40 VDR (power), 41 GND (power), 42 DRGND (power), 51 VDR (power), 52 NC, 53 DRGND (power), 62 VDR (power), 63 NC, 64 DRGND (power), 73 VDR (power), 74 DRGND (power), 87 DRGND (power), 88 VDR (power), 97 DRGND (power), 98 NC, 99 VDR (power), 108 DRGND (power), 109 NC, 110 VDR (power), 119 DRGND (power), 120 NC, 121 VDR (power), 128 VA (power), 129 DAP (power)

## ADC08D1000WG-QV
designator U?
High Performance, Low Power, Dual 8-Bit, 1 GSPS A/D Converter, 129-pin CQGP; PartNumber: ADC08D1000WG-QV; Manufacturer: National Semiconductor; PackageTopMarking: NSZSSXXYYA*ADC08D1000*WG-QV 5962-*0520601VZC Q; PowerWise: N; CompType: ADC IC; Published: 4-Dec-2008; DatasheetVersion: Jan-2007; PackageVersion: revB, Dec-2007; PackageReference: EM128A; Publisher: Altium Limited; PackageDescription: Ceramic Quad Gullwing, .770 x .770 x .118in, 128 Lead, .020in Pitch; RoHS: N; PinCount: 128; ComponentLink1Description: ADC08D1000WG Datasheet; ComponentLink1URL: http://www.national.com/ds/AD/ADC08D1000WG-QV.pdf; ComponentLink2Description: ADC08D1000WG Web Page; ComponentLink2URL: http://www.national.com/opf/DC/ADC08D1000QML.html; ComponentLink3Description: EM128A Package Page; ComponentLink3URL: http://www.national.com/packaging/folders/em128a.html
footprint EM128A_N (CQFP, 128-Leads, Body 19.6x19.6mm; Pitch 0.508mm, Gullwing Leadform, IPC Medium Density)
footprint EM128A_L (CQFP, 128-Leads, Body 19.6x19.6mm; Pitch 0.508mm, Gullwing Leadform, IPC High Density)
footprint EM128A_M (CQFP, 128-Leads, Body 19.6x19.6mm; Pitch 0.508mm, Gullwing Leadform, IPC Low Density)
part A pins: 3 OUTV/SCLK (in), 4 OUTEDGE/DDR/SDATA (in), 7 VCMO (out), 10 VINI- (in), 11 VINI+ (in), 14 FSR/ECE (in), 15 DCLK_RST (in), 18 CLK+ (in), 19 CLK- (in), 22 VINQ+ (in), 23 VINQ- (in), 26 PD (in), 29 PDQ (in), 30 CAL (in), 31 VBG (out), 36 DQD0+ (out), 37 DQD0- (out), 38 DQD1+ (out), 39 DQD1- (out), 43 DQD2+ (out), 44 DQD2- (out), 45 DQD3+ (out), 46 DQD3- (out), 47 DQD4+ (out), 48 DQD4- (out), 49 DQD5+ (out), 50 DQD5- (out), 54 DQD6+ (out), 55 DQD6- (out), 56 DQD7+ (out), 57 DQD7- (out), 58 DQ0+ (out), 59 DQ0- (out), 60 DQ1+ (out), 61 DQ1- (out), 65 DQ2+ (out), 66 DQ2- (out), 67 DQ3+ (out), 68 DQ3- (out), 69 DQ4+ (out), 70 DQ4- (out), 71 DQ5+ (out), 72 DQ5- (out), 75 DQ6+ (out), 76 DQ6- (out), 77 DQ7+ (out), 78 DQ7- (out), 79 OR+ (out), 80 OR- (out), 81 DCLK- (out), 82 DCLK+ (out), 83 DI7- (out), 84 DI7+ (out), 85 DI6- (out), 86 DI6+ (out), 89 DI5- (out), 90 DI5+ (out), 91 DI4- (out), 92 DI4+ (out), 93 DI3- (out), 94 DI3+ (out), 95 DI2- (out), 96 DI2+ (out), 100 DI1- (out), 101 DI1+ (out), 102 DI0- (out), 103 DI0+ (out), 104 DID7- (out), 105 DID7+ (out), 106 DID6- (out), 107 DID6+ (out), 111 DID5- (out), 112 DID5+ (out), 113 DID4- (out), 114 DID4+ (out), 115 DID3- (out), 116 DID3+ (out), 117 DID2- (out), 118 DID2+ (out), 122 DID1- (out), 123 DID1+ (out), 124 DID0- (out), 125 DID0+ (out), 126 CALRUN (out), 127 CALDLY/DES/~{SCS} (in)
part B pins: 1 GND (power), 2 VA (power), 5 VA (power), 6 GND (power), 8 VA (power), 9 GND (power), 12 GND (power), 13 VA (power), 16 VA (power), 17 VA (power), 20 VA (power), 21 GND (power), 24 GND (power), 25 VA (power), 27 GND (power), 28 VA (power), 32 REXT, 33 VA (power), 34 TDIODE_P, 35 TDIODE_N, 40 VDR (power), 41 GND (power), 42 DRGND (power), 51 VDR (power), 52 NC, 53 DRGND (power), 62 VDR (power), 63 NC, 64 DRGND (power), 73 VDR (power), 74 DRGND (power), 87 DRGND (power), 88 VDR (power), 97 DRGND (power), 98 NC, 99 VDR (power), 108 DRGND (power), 109 NC, 110 VDR (power), 119 DRGND (power), 120 NC, 121 VDR (power), 128 VA (power), 129 DAP (power)

## ADC08D1000WGFQV
designator U?
High Performance, Low Power, Dual 8-Bit, 1 GSPS A/D Converter, 129-pin CQGP; PartNumber: ADC08D1000WGFQV; Manufacturer: National Semiconductor; PackageTopMarking: NSZSSXXYYA*ADC08D1000*WGFQV 5962F*0520601VZC Q; PowerWise: N; CompType: ADC IC; High-Reliability: Y; Published: 4-Dec-2008; DatasheetVersion: Apr-2009; PackageVersion: revB, Dec-2007; PackageReference: EM128A; Publisher: Altium Limited; PackageDescription: Ceramic Quad Gullwing, .770 x .770 x .118in, 128 Lead, .020in Pitch; RoHS: N; PinCount: 128; ComponentLink1Description: ADC08D1000 Datasheet; ComponentLink1URL: http://www.national.com/ds/AD/ADC08D1000QML.pdf; ComponentLink2Description: ADC08D1000 Web Page; ComponentLink2URL: http://www.national.com/pf/AD/ADC08D1000.html; ComponentLink3Description: EM128A Package Page; ComponentLink3URL: http://www.national.com/packaging/folders/em128a.html
footprint EM128A_N (CQFP, 128-Leads, Body 19.6x19.6mm; Pitch 0.508mm, Gullwing Leadform, IPC Medium Density)
footprint EM128A_L (CQFP, 128-Leads, Body 19.6x19.6mm; Pitch 0.508mm, Gullwing Leadform, IPC High Density)
footprint EM128A_M (CQFP, 128-Leads, Body 19.6x19.6mm; Pitch 0.508mm, Gullwing Leadform, IPC Low Density)
part A pins: 3 OUTV/SCLK (in), 4 OUTEDGE/DDR/SDATA (in), 7 VCMO (out), 10 VINI- (in), 11 VINI+ (in), 14 FSR/ECE (in), 15 DCLK_RST (in), 18 CLK+ (in), 19 CLK- (in), 22 VINQ+ (in), 23 VINQ- (in), 26 PD (in), 29 PDQ (in), 30 CAL (in), 31 VBG (out), 36 DQD0+ (out), 37 DQD0- (out), 38 DQD1+ (out), 39 DQD1- (out), 43 DQD2+ (out), 44 DQD2- (out), 45 DQD3+ (out), 46 DQD3- (out), 47 DQD4+ (out), 48 DQD4- (out), 49 DQD5+ (out), 50 DQD5- (out), 54 DQD6+ (out), 55 DQD6- (out), 56 DQD7+ (out), 57 DQD7- (out), 58 DQ0+ (out), 59 DQ0- (out), 60 DQ1+ (out), 61 DQ1- (out), 65 DQ2+ (out), 66 DQ2- (out), 67 DQ3+ (out), 68 DQ3- (out), 69 DQ4+ (out), 70 DQ4- (out), 71 DQ5+ (out), 72 DQ5- (out), 75 DQ6+ (out), 76 DQ6- (out), 77 DQ7+ (out), 78 DQ7- (out), 79 OR+ (out), 80 OR- (out), 81 DCLK- (out), 82 DCLK+ (out), 83 DI7- (out), 84 DI7+ (out), 85 DI6- (out), 86 DI6+ (out), 89 DI5- (out), 90 DI5+ (out), 91 DI4- (out), 92 DI4+ (out), 93 DI3- (out), 94 DI3+ (out), 95 DI2- (out), 96 DI2+ (out), 100 DI1- (out), 101 DI1+ (out), 102 DI0- (out), 103 DI0+ (out), 104 DID7- (out), 105 DID7+ (out), 106 DID6- (out), 107 DID6+ (out), 111 DID5- (out), 112 DID5+ (out), 113 DID4- (out), 114 DID4+ (out), 115 DID3- (out), 116 DID3+ (out), 117 DID2- (out), 118 DID2+ (out), 122 DID1- (out), 123 DID1+ (out), 124 DID0- (out), 125 DID0+ (out), 126 CALRUN (out), 127 CALDLY/DES/~{SCS} (in)
part B pins: 1 GND (power), 2 VA (power), 5 VA (power), 6 GND (power), 8 VA (power), 9 GND (power), 12 GND (power), 13 VA (power), 16 VA (power), 17 VA (power), 20 VA (power), 21 GND (power), 24 GND (power), 25 VA (power), 27 GND (power), 28 VA (power), 32 REXT, 33 VA (power), 34 TDIODE_P, 35 TDIODE_N, 40 VDR (power), 41 GND (power), 42 DRGND (power), 51 VDR (power), 52 NC, 53 DRGND (power), 62 VDR (power), 63 NC, 64 DRGND (power), 73 VDR (power), 74 DRGND (power), 87 DRGND (power), 88 VDR (power), 97 DRGND (power), 98 NC, 99 VDR (power), 108 DRGND (power), 109 NC, 110 VDR (power), 119 DRGND (power), 120 NC, 121 VDR (power), 128 VA (power), 129 DAP (power)

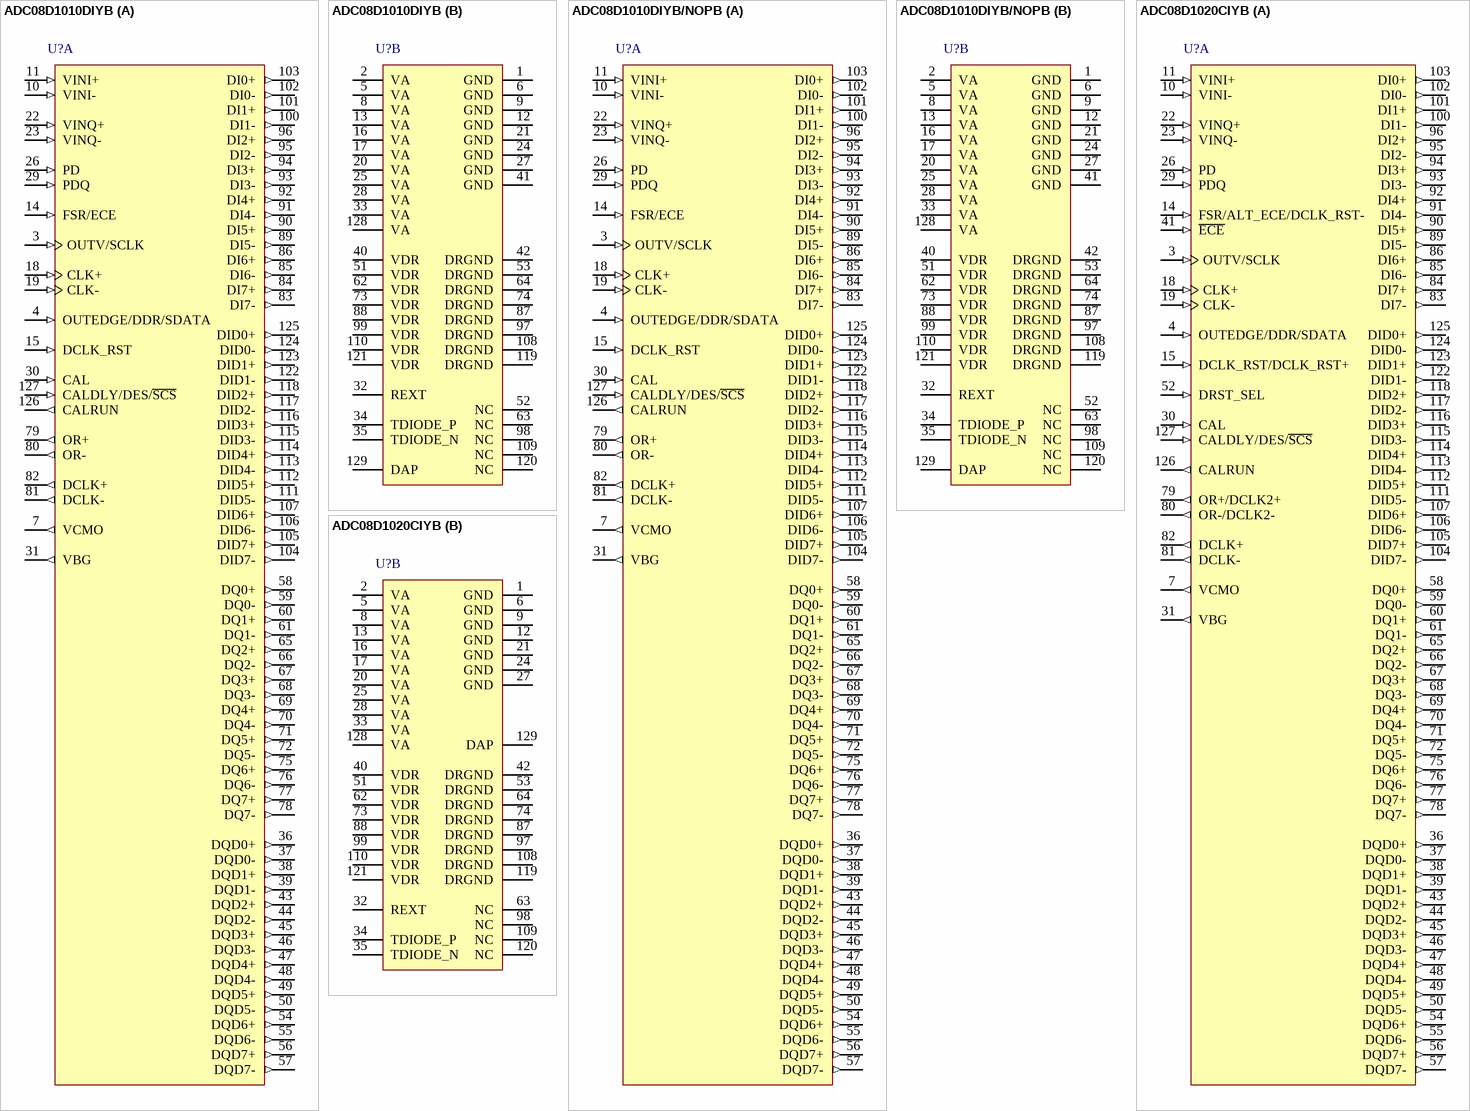
[diagram p3: symbols ADC08D1010DIYB to ADC08D1020CIYB]

## ADC08D1010DIYB
designator U?
High Performance, Low Power, Dual 8-Bit, 1 GSPS A/D Converter, 129-pin LQFP-EP; PartNumber: ADC08D1010DIYB; Manufacturer: National Semiconductor; PackageTopMarking: NSUZXYYTTE#*ADC08D1010*DIYB; PowerWise: N; CompType: ADC IC; Published: 4-Dec-2008; DatasheetVersion: Apr-2009; PackageVersion: revB, Aug-2006; PackageReference: VNX128A; Publisher: Altium Limited; PackageDescription: LQFP, 20 x 20 x 1.4mm, 128 Lead, 0.5mm Pitch, Exposed Pad; RoHS: N; PinCount: 128; Code_JEDEC: MS-026-BFB; ComponentLink1Description: ADC08D1010 Datasheet; ComponentLink1URL: http://www.national.com/ds/AD/ADC08D1010.pdf; ComponentLink2Description: ADC08D1010 Web Page; ComponentLink2URL: http://www.national.com/pf/AD/ADC08D1010.html; ComponentLink3Description: VNX128A Package Page; ComponentLink3URL: http://www.national.com/packaging/folders/vnx128a.html
footprint VNX128A_N (Thin QFP, 128-Leads, Body 20x20mm, Pitch 0.5mm, Exposed Pad, IPC Medium Density)
footprint VNX128A_L (Thin QFP, 128-Leads, Body 20x20mm, Pitch 0.5mm, Exposed Pad, IPC High Density)
footprint VNX128A_M (Thin QFP, 128-Leads, Body 20x20mm, Pitch 0.5mm, Exposed Pad, IPC Low Density)
part A pins: 3 OUTV/SCLK (in), 4 OUTEDGE/DDR/SDATA (in), 7 VCMO (out), 10 VINI- (in), 11 VINI+ (in), 14 FSR/ECE (in), 15 DCLK_RST (in), 18 CLK+ (in), 19 CLK- (in), 22 VINQ+ (in), 23 VINQ- (in), 26 PD (in), 29 PDQ (in), 30 CAL (in), 31 VBG (out), 36 DQD0+ (out), 37 DQD0- (out), 38 DQD1+ (out), 39 DQD1- (out), 43 DQD2+ (out), 44 DQD2- (out), 45 DQD3+ (out), 46 DQD3- (out), 47 DQD4+ (out), 48 DQD4- (out), 49 DQD5+ (out), 50 DQD5- (out), 54 DQD6+ (out), 55 DQD6- (out), 56 DQD7+ (out), 57 DQD7- (out), 58 DQ0+ (out), 59 DQ0- (out), 60 DQ1+ (out), 61 DQ1- (out), 65 DQ2+ (out), 66 DQ2- (out), 67 DQ3+ (out), 68 DQ3- (out), 69 DQ4+ (out), 70 DQ4- (out), 71 DQ5+ (out), 72 DQ5- (out), 75 DQ6+ (out), 76 DQ6- (out), 77 DQ7+ (out), 78 DQ7- (out), 79 OR+ (out), 80 OR- (out), 81 DCLK- (out), 82 DCLK+ (out), 83 DI7- (out), 84 DI7+ (out), 85 DI6- (out), 86 DI6+ (out), 89 DI5- (out), 90 DI5+ (out), 91 DI4- (out), 92 DI4+ (out), 93 DI3- (out), 94 DI3+ (out), 95 DI2- (out), 96 DI2+ (out), 100 DI1- (out), 101 DI1+ (out), 102 DI0- (out), 103 DI0+ (out), 104 DID7- (out), 105 DID7+ (out), 106 DID6- (out), 107 DID6+ (out), 111 DID5- (out), 112 DID5+ (out), 113 DID4- (out), 114 DID4+ (out), 115 DID3- (out), 116 DID3+ (out), 117 DID2- (out), 118 DID2+ (out), 122 DID1- (out), 123 DID1+ (out), 124 DID0- (out), 125 DID0+ (out), 126 CALRUN (out), 127 CALDLY/DES/~{SCS} (in)
part B pins: 1 GND (power), 2 VA (power), 5 VA (power), 6 GND (power), 8 VA (power), 9 GND (power), 12 GND (power), 13 VA (power), 16 VA (power), 17 VA (power), 20 VA (power), 21 GND (power), 24 GND (power), 25 VA (power), 27 GND (power), 28 VA (power), 32 REXT, 33 VA (power), 34 TDIODE_P, 35 TDIODE_N, 40 VDR (power), 41 GND (power), 42 DRGND (power), 51 VDR (power), 52 NC, 53 DRGND (power), 62 VDR (power), 63 NC, 64 DRGND (power), 73 VDR (power), 74 DRGND (power), 87 DRGND (power), 88 VDR (power), 97 DRGND (power), 98 NC, 99 VDR (power), 108 DRGND (power), 109 NC, 110 VDR (power), 119 DRGND (power), 120 NC, 121 VDR (power), 128 VA (power), 129 DAP (power)

## ADC08D1010DIYB/NOPB
designator U?
High Performance, Low Power, Dual 8-Bit, 1 GSPS A/D Converter, 128 pin LQFP EXP PAD; PartNumber: ADC08D1010DIYB/NOPB; Manufacturer: National Semiconductor; PackageTopMarking: NSUZXYYTTE#*ADC08D1010*DIYB; PowerWise: N; CompType: ADC IC; Published: 16-Nov-2010; DatasheetVersion: Apr-2009; PackageVersion: revB, Aug-2006; PackageReference: VNX128A; Publisher: Altium Limited; PackageDescription: LQFP, 20 x 20 x 1.4mm, 128 Lead, 0.5mm Pitch, Exposed Pad; RoHS: Y; PinCount: 128; Code_JEDEC: MS-026-BFB; ComponentLink1Description: ADC08D1010 Datasheet; ComponentLink1URL: http://www.national.com/ds/AD/ADC08D1010.pdf; ComponentLink2Description: ADC08D1010 Web Page; ComponentLink2URL: http://www.national.com/pf/AD/ADC08D1010.html; ComponentLink3Description: VNX128A Package Page; ComponentLink3URL: http://www.national.com/packaging/folders/vnx128a.html
footprint VNX128A_N (Thin QFP, 128-Leads, Body 20x20mm, Pitch 0.5mm, Exposed Pad, IPC Medium Density)
footprint VNX128A_L (Thin QFP, 128-Leads, Body 20x20mm, Pitch 0.5mm, Exposed Pad, IPC High Density)
footprint VNX128A_M (Thin QFP, 128-Leads, Body 20x20mm, Pitch 0.5mm, Exposed Pad, IPC Low Density)
part A pins: 3 OUTV/SCLK (in), 4 OUTEDGE/DDR/SDATA (in), 7 VCMO (out), 10 VINI- (in), 11 VINI+ (in), 14 FSR/ECE (in), 15 DCLK_RST (in), 18 CLK+ (in), 19 CLK- (in), 22 VINQ+ (in), 23 VINQ- (in), 26 PD (in), 29 PDQ (in), 30 CAL (in), 31 VBG (out), 36 DQD0+ (out), 37 DQD0- (out), 38 DQD1+ (out), 39 DQD1- (out), 43 DQD2+ (out), 44 DQD2- (out), 45 DQD3+ (out), 46 DQD3- (out), 47 DQD4+ (out), 48 DQD4- (out), 49 DQD5+ (out), 50 DQD5- (out), 54 DQD6+ (out), 55 DQD6- (out), 56 DQD7+ (out), 57 DQD7- (out), 58 DQ0+ (out), 59 DQ0- (out), 60 DQ1+ (out), 61 DQ1- (out), 65 DQ2+ (out), 66 DQ2- (out), 67 DQ3+ (out), 68 DQ3- (out), 69 DQ4+ (out), 70 DQ4- (out), 71 DQ5+ (out), 72 DQ5- (out), 75 DQ6+ (out), 76 DQ6- (out), 77 DQ7+ (out), 78 DQ7- (out), 79 OR+ (out), 80 OR- (out), 81 DCLK- (out), 82 DCLK+ (out), 83 DI7- (out), 84 DI7+ (out), 85 DI6- (out), 86 DI6+ (out), 89 DI5- (out), 90 DI5+ (out), 91 DI4- (out), 92 DI4+ (out), 93 DI3- (out), 94 DI3+ (out), 95 DI2- (out), 96 DI2+ (out), 100 DI1- (out), 101 DI1+ (out), 102 DI0- (out), 103 DI0+ (out), 104 DID7- (out), 105 DID7+ (out), 106 DID6- (out), 107 DID6+ (out), 111 DID5- (out), 112 DID5+ (out), 113 DID4- (out), 114 DID4+ (out), 115 DID3- (out), 116 DID3+ (out), 117 DID2- (out), 118 DID2+ (out), 122 DID1- (out), 123 DID1+ (out), 124 DID0- (out), 125 DID0+ (out), 126 CALRUN (out), 127 CALDLY/DES/~{SCS} (in)
part B pins: 1 GND (power), 2 VA (power), 5 VA (power), 6 GND (power), 8 VA (power), 9 GND (power), 12 GND (power), 13 VA (power), 16 VA (power), 17 VA (power), 20 VA (power), 21 GND (power), 24 GND (power), 25 VA (power), 27 GND (power), 28 VA (power), 32 REXT, 33 VA (power), 34 TDIODE_P, 35 TDIODE_N, 40 VDR (power), 41 GND (power), 42 DRGND (power), 51 VDR (power), 52 NC, 53 DRGND (power), 62 VDR (power), 63 NC, 64 DRGND (power), 73 VDR (power), 74 DRGND (power), 87 DRGND (power), 88 VDR (power), 97 DRGND (power), 98 NC, 99 VDR (power), 108 DRGND (power), 109 NC, 110 VDR (power), 119 DRGND (power), 120 NC, 121 VDR (power), 128 VA (power), 129 DAP (power)

## ADC08D1020CIYB
designator U?
Low Power, Dual 8-Bit, 1.0 GSPS A/D Converter, 129-pin LQFP-EP; PartNumber: ADC08D1020CIYB; Manufacturer: National Semiconductor; PackageTopMarking: NSUZXYYTTE#*ADC08D1020*CIYB; PowerWise: Y; CompType: ADC IC; Published: 4-Dec-2008; DatasheetVersion: Nov-2009; PackageVersion: revB, Aug-2006; PackageReference: VNX128A; Publisher: Altium Limited; PackageDescription: LQFP, 20 x 20 x 1.4mm, 128 Lead, 0.5mm Pitch, Exposed Pad; RoHS: N; PinCount: 128; Code_JEDEC: MS-026-BFB; ComponentLink1Description: ADC08D1020 Datasheet; ComponentLink1URL: http://www.national.com/ds/AD/ADC08D1020.pdf; ComponentLink2Description: ADC08D1020 Web Page; ComponentLink2URL: http://www.national.com/pf/AD/ADC08D1020.html; ComponentLink3Description: VNX128A Package Page; ComponentLink3URL: http://www.national.com/packaging/folders/vnx128a.html
footprint VNX128A_N (Thin QFP, 128-Leads, Body 20x20mm, Pitch 0.5mm, Exposed Pad, IPC Medium Density)
footprint VNX128A_L (Thin QFP, 128-Leads, Body 20x20mm, Pitch 0.5mm, Exposed Pad, IPC High Density)
footprint VNX128A_M (Thin QFP, 128-Leads, Body 20x20mm, Pitch 0.5mm, Exposed Pad, IPC Low Density)
part A pins: 3 OUTV/SCLK (in), 4 OUTEDGE/DDR/SDATA (in), 7 VCMO (out), 10 VINI- (in), 11 VINI+ (in), 14 FSR/ALT_ECE/DCLK_RST- (in), 15 DCLK_RST/DCLK_RST+ (in), 18 CLK+ (in), 19 CLK- (in), 22 VINQ+ (in), 23 VINQ- (in), 26 PD (in), 29 PDQ (in), 30 CAL (in), 31 VBG (out), 36 DQD0+ (out), 37 DQD0- (out), 38 DQD1+ (out), 39 DQD1- (out), 41 ~{ECE} (in), 43 DQD2+ (out), 44 DQD2- (out), 45 DQD3+ (out), 46 DQD3- (out), 47 DQD4+ (out), 48 DQD4- (out), 49 DQD5+ (out), 50 DQD5- (out), 52 DRST_SEL (in), 54 DQD6+ (out), 55 DQD6- (out), 56 DQD7+ (out), 57 DQD7- (out), 58 DQ0+ (out), 59 DQ0- (out), 60 DQ1+ (out), 61 DQ1- (out), 65 DQ2+ (out), 66 DQ2- (out), 67 DQ3+ (out), 68 DQ3- (out), 69 DQ4+ (out), 70 DQ4- (out), 71 DQ5+ (out), 72 DQ5- (out), 75 DQ6+ (out), 76 DQ6- (out), 77 DQ7+ (out), 78 DQ7- (out), 79 OR+/DCLK2+ (out), 80 OR-/DCLK2- (out), 81 DCLK- (out), 82 DCLK+ (out), 83 DI7- (out), 84 DI7+ (out), 85 DI6- (out), 86 DI6+ (out), 89 DI5- (out), 90 DI5+ (out), 91 DI4- (out), 92 DI4+ (out), 93 DI3- (out), 94 DI3+ (out), 95 DI2- (out), 96 DI2+ (out), 100 DI1- (out), 101 DI1+ (out), 102 DI0- (out), 103 DI0+ (out), 104 DID7- (out), 105 DID7+ (out), 106 DID6- (out), 107 DID6+ (out), 111 DID5- (out), 112 DID5+ (out), 113 DID4- (out), 114 DID4+ (out), 115 DID3- (out), 116 DID3+ (out), 117 DID2- (out), 118 DID2+ (out), 122 DID1- (out), 123 DID1+ (out), 124 DID0- (out), 125 DID0+ (out), 126 CALRUN (out), 127 CALDLY/DES/~{SCS} (in)
part B pins: 1 GND (power), 2 VA (power), 5 VA (power), 6 GND (power), 8 VA (power), 9 GND (power), 12 GND (power), 13 VA (power), 16 VA (power), 17 VA (power), 20 VA (power), 21 GND (power), 24 GND (power), 25 VA (power), 27 GND (power), 28 VA (power), 32 REXT, 33 VA (power), 34 TDIODE_P, 35 TDIODE_N, 40 VDR (power), 42 DRGND (power), 51 VDR (power), 53 DRGND (power), 62 VDR (power), 63 NC, 64 DRGND (power), 73 VDR (power), 74 DRGND (power), 87 DRGND (power), 88 VDR (power), 97 DRGND (power), 98 NC, 99 VDR (power), 108 DRGND (power), 109 NC, 110 VDR (power), 119 DRGND (power), 120 NC, 121 VDR (power), 128 VA (power), 129 DAP (power)

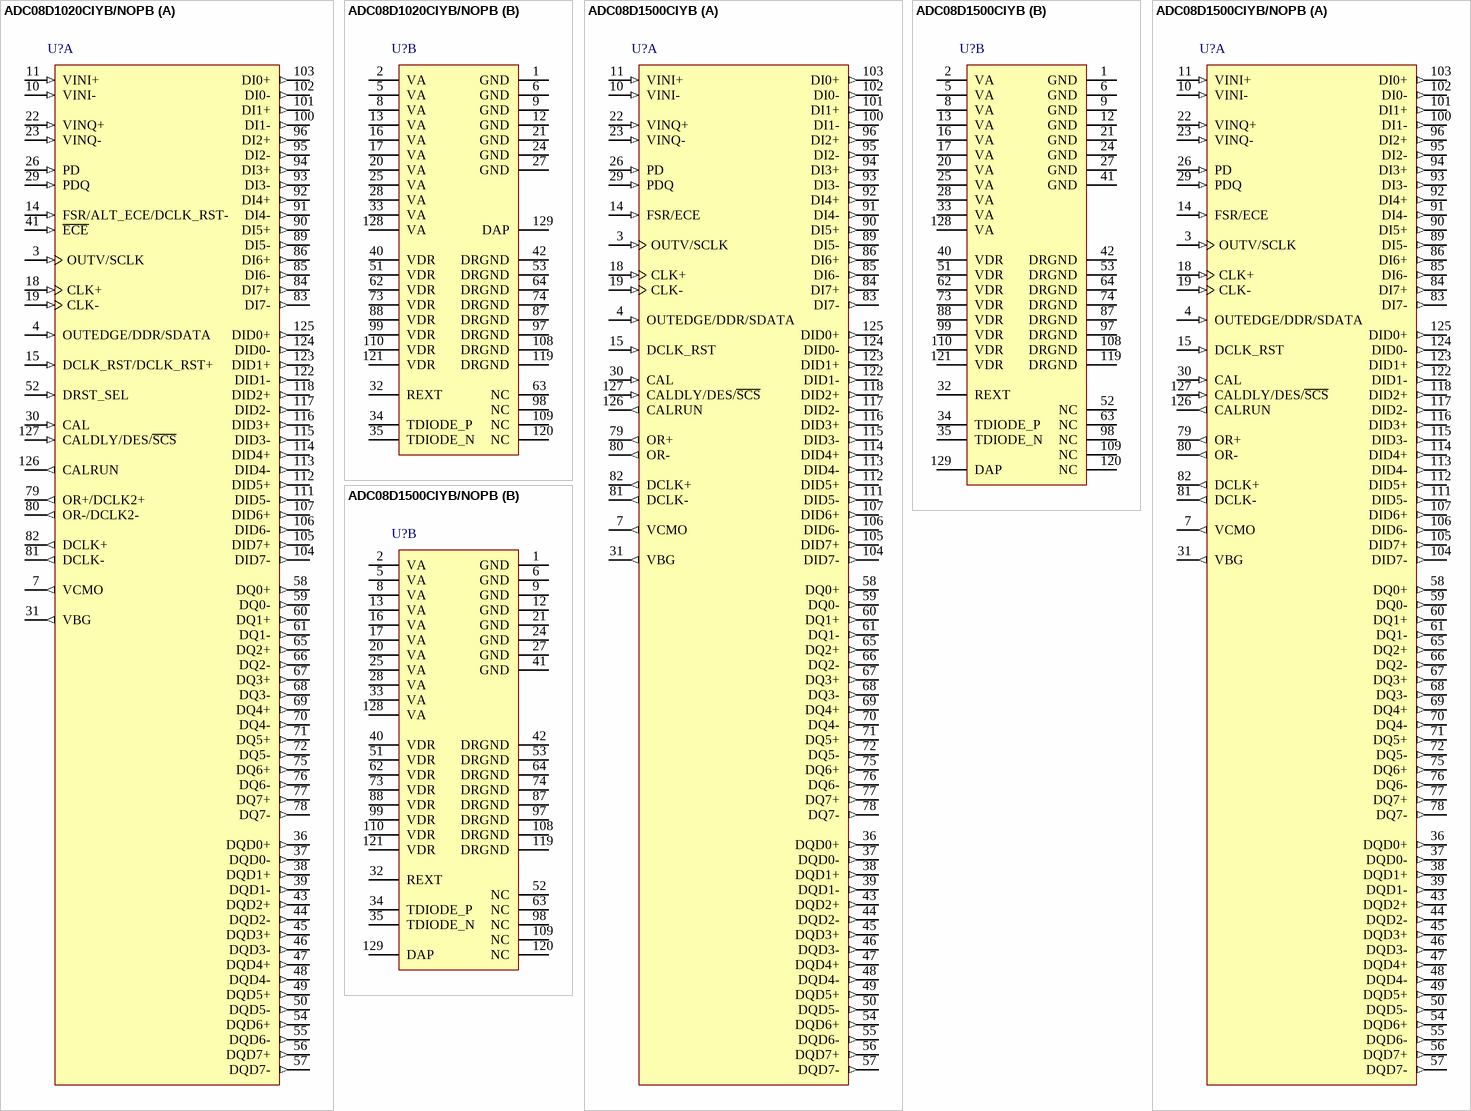
[diagram p4: symbols ADC08D1020CIYB/NOPB to ADC08D1500CIYB/NOPB]

## ADC08D1020CIYB/NOPB
designator U?
Low Power, 8-Bit, Dual 1.0 GSPS or Single 2.0 GSPS A/D Converter, 128-pin LQFP-EP, Pb-Free; PartNumber: ADC08D1020CIYB/NOPB; Manufacturer: National Semiconductor; PackageTopMarking: NSUZXYYTTE#*ADC08D1020*CIYB; PowerWise: Y; CompType: ADC IC; Published: 1-Mar-2010; DatasheetVersion: Nov-2009; PackageVersion: revB, Aug-2006; PackageReference: VNX128A; Publisher: Altium Limited; PackageDescription: LQFP, 20 x 20 x 1.4mm, 128 Lead, 0.5mm Pitch, Exposed Pad; Supplier 1: Digi-Key; Supplier Part Number 1: ADC08D1020CIYB-ND; RoHS: Y; PinCount: 128; Code_JEDEC: MS-026-BFB; ComponentLink1Description: ADC08D1020 Datasheet; ComponentLink1URL: http://www.national.com/ds/AD/ADC08D1020.pdf; ComponentLink2Description: ADC08D1020 Web Page; ComponentLink2URL: http://www.national.com/pf/AD/ADC08D1020.html; ComponentLink3Description: VNX128A Package Page; ComponentLink3URL: http://www.national.com/packaging/folders/vnx128a.html
footprint VNX128A_N (Thin QFP, 128-Leads, Body 20x20mm, Pitch 0.5mm, Exposed Pad, IPC Medium Density)
footprint VNX128A_L (Thin QFP, 128-Leads, Body 20x20mm, Pitch 0.5mm, Exposed Pad, IPC High Density)
footprint VNX128A_M (Thin QFP, 128-Leads, Body 20x20mm, Pitch 0.5mm, Exposed Pad, IPC Low Density)
part A pins: 3 OUTV/SCLK (in), 4 OUTEDGE/DDR/SDATA (in), 7 VCMO (out), 10 VINI- (in), 11 VINI+ (in), 14 FSR/ALT_ECE/DCLK_RST- (in), 15 DCLK_RST/DCLK_RST+ (in), 18 CLK+ (in), 19 CLK- (in), 22 VINQ+ (in), 23 VINQ- (in), 26 PD (in), 29 PDQ (in), 30 CAL (in), 31 VBG (out), 36 DQD0+ (out), 37 DQD0- (out), 38 DQD1+ (out), 39 DQD1- (out), 41 ~{ECE} (in), 43 DQD2+ (out), 44 DQD2- (out), 45 DQD3+ (out), 46 DQD3- (out), 47 DQD4+ (out), 48 DQD4- (out), 49 DQD5+ (out), 50 DQD5- (out), 52 DRST_SEL (in), 54 DQD6+ (out), 55 DQD6- (out), 56 DQD7+ (out), 57 DQD7- (out), 58 DQ0+ (out), 59 DQ0- (out), 60 DQ1+ (out), 61 DQ1- (out), 65 DQ2+ (out), 66 DQ2- (out), 67 DQ3+ (out), 68 DQ3- (out), 69 DQ4+ (out), 70 DQ4- (out), 71 DQ5+ (out), 72 DQ5- (out), 75 DQ6+ (out), 76 DQ6- (out), 77 DQ7+ (out), 78 DQ7- (out), 79 OR+/DCLK2+ (out), 80 OR-/DCLK2- (out), 81 DCLK- (out), 82 DCLK+ (out), 83 DI7- (out), 84 DI7+ (out), 85 DI6- (out), 86 DI6+ (out), 89 DI5- (out), 90 DI5+ (out), 91 DI4- (out), 92 DI4+ (out), 93 DI3- (out), 94 DI3+ (out), 95 DI2- (out), 96 DI2+ (out), 100 DI1- (out), 101 DI1+ (out), 102 DI0- (out), 103 DI0+ (out), 104 DID7- (out), 105 DID7+ (out), 106 DID6- (out), 107 DID6+ (out), 111 DID5- (out), 112 DID5+ (out), 113 DID4- (out), 114 DID4+ (out), 115 DID3- (out), 116 DID3+ (out), 117 DID2- (out), 118 DID2+ (out), 122 DID1- (out), 123 DID1+ (out), 124 DID0- (out), 125 DID0+ (out), 126 CALRUN (out), 127 CALDLY/DES/~{SCS} (in)
part B pins: 1 GND (power), 2 VA (power), 5 VA (power), 6 GND (power), 8 VA (power), 9 GND (power), 12 GND (power), 13 VA (power), 16 VA (power), 17 VA (power), 20 VA (power), 21 GND (power), 24 GND (power), 25 VA (power), 27 GND (power), 28 VA (power), 32 REXT, 33 VA (power), 34 TDIODE_P, 35 TDIODE_N, 40 VDR (power), 42 DRGND (power), 51 VDR (power), 53 DRGND (power), 62 VDR (power), 63 NC, 64 DRGND (power), 73 VDR (power), 74 DRGND (power), 87 DRGND (power), 88 VDR (power), 97 DRGND (power), 98 NC, 99 VDR (power), 108 DRGND (power), 109 NC, 110 VDR (power), 119 DRGND (power), 120 NC, 121 VDR (power), 128 VA (power), 129 DAP (power)

## ADC08D1500CIYB
designator U?
High Performance, Low Power, Dual 8-Bit, 1.5 GSPS A/D Converter, 129-pin LQFP-EP; PartNumber: ADC08D1500CIYB; Manufacturer: National Semiconductor; PackageTopMarking: NSUZXYYTTE#*ADC08D1500*CIYB; PowerWise: Y; CompType: ADC IC; Published: 4-Dec-2008; DatasheetVersion: Apr-2009; PackageVersion: revB, Aug-2006; PackageReference: VNX128A; Publisher: Altium Limited; PackageDescription: LQFP, 20 x 20 x 1.4mm, 128 Lead, 0.5mm Pitch, Exposed Pad; RoHS: N; PinCount: 128; Code_JEDEC: MS-026-BFB; ComponentLink1Description: ADC08D1500 Datasheet; ComponentLink1URL: http://www.national.com/ds/AD/ADC08D1500.pdf; ComponentLink2Description: ADC08D1500 Web Page; ComponentLink2URL: http://www.national.com/pf/AD/ADC08D1500.html; ComponentLink3Description: VNX128A Package Page; ComponentLink3URL: http://www.national.com/packaging/folders/vnx128a.html
footprint VNX128A_N (Thin QFP, 128-Leads, Body 20x20mm, Pitch 0.5mm, Exposed Pad, IPC Medium Density)
footprint VNX128A_L (Thin QFP, 128-Leads, Body 20x20mm, Pitch 0.5mm, Exposed Pad, IPC High Density)
footprint VNX128A_M (Thin QFP, 128-Leads, Body 20x20mm, Pitch 0.5mm, Exposed Pad, IPC Low Density)
part A pins: 3 OUTV/SCLK (in), 4 OUTEDGE/DDR/SDATA (in), 7 VCMO (out), 10 VINI- (in), 11 VINI+ (in), 14 FSR/ECE (in), 15 DCLK_RST (in), 18 CLK+ (in), 19 CLK- (in), 22 VINQ+ (in), 23 VINQ- (in), 26 PD (in), 29 PDQ (in), 30 CAL (in), 31 VBG (out), 36 DQD0+ (out), 37 DQD0- (out), 38 DQD1+ (out), 39 DQD1- (out), 43 DQD2+ (out), 44 DQD2- (out), 45 DQD3+ (out), 46 DQD3- (out), 47 DQD4+ (out), 48 DQD4- (out), 49 DQD5+ (out), 50 DQD5- (out), 54 DQD6+ (out), 55 DQD6- (out), 56 DQD7+ (out), 57 DQD7- (out), 58 DQ0+ (out), 59 DQ0- (out), 60 DQ1+ (out), 61 DQ1- (out), 65 DQ2+ (out), 66 DQ2- (out), 67 DQ3+ (out), 68 DQ3- (out), 69 DQ4+ (out), 70 DQ4- (out), 71 DQ5+ (out), 72 DQ5- (out), 75 DQ6+ (out), 76 DQ6- (out), 77 DQ7+ (out), 78 DQ7- (out), 79 OR+ (out), 80 OR- (out), 81 DCLK- (out), 82 DCLK+ (out), 83 DI7- (out), 84 DI7+ (out), 85 DI6- (out), 86 DI6+ (out), 89 DI5- (out), 90 DI5+ (out), 91 DI4- (out), 92 DI4+ (out), 93 DI3- (out), 94 DI3+ (out), 95 DI2- (out), 96 DI2+ (out), 100 DI1- (out), 101 DI1+ (out), 102 DI0- (out), 103 DI0+ (out), 104 DID7- (out), 105 DID7+ (out), 106 DID6- (out), 107 DID6+ (out), 111 DID5- (out), 112 DID5+ (out), 113 DID4- (out), 114 DID4+ (out), 115 DID3- (out), 116 DID3+ (out), 117 DID2- (out), 118 DID2+ (out), 122 DID1- (out), 123 DID1+ (out), 124 DID0- (out), 125 DID0+ (out), 126 CALRUN (out), 127 CALDLY/DES/~{SCS} (in)
part B pins: 1 GND (power), 2 VA (power), 5 VA (power), 6 GND (power), 8 VA (power), 9 GND (power), 12 GND (power), 13 VA (power), 16 VA (power), 17 VA (power), 20 VA (power), 21 GND (power), 24 GND (power), 25 VA (power), 27 GND (power), 28 VA (power), 32 REXT, 33 VA (power), 34 TDIODE_P, 35 TDIODE_N, 40 VDR (power), 41 GND (power), 42 DRGND (power), 51 VDR (power), 52 NC, 53 DRGND (power), 62 VDR (power), 63 NC, 64 DRGND (power), 73 VDR (power), 74 DRGND (power), 87 DRGND (power), 88 VDR (power), 97 DRGND (power), 98 NC, 99 VDR (power), 108 DRGND (power), 109 NC, 110 VDR (power), 119 DRGND (power), 120 NC, 121 VDR (power), 128 VA (power), 129 DAP (power)